# EAGLE library part WIZ820IO (library hybridpi)
Ethernet to SPI Communication Module WIZnet Datasheet: WIZ820io <http://www.wiznet.co.kr/include_Files/Just_Download.asp?PK_NUM=463&file_local_path=ReferenceFiles&file_local_name=WIZ820io_User_Manual_V1.0.pdf>
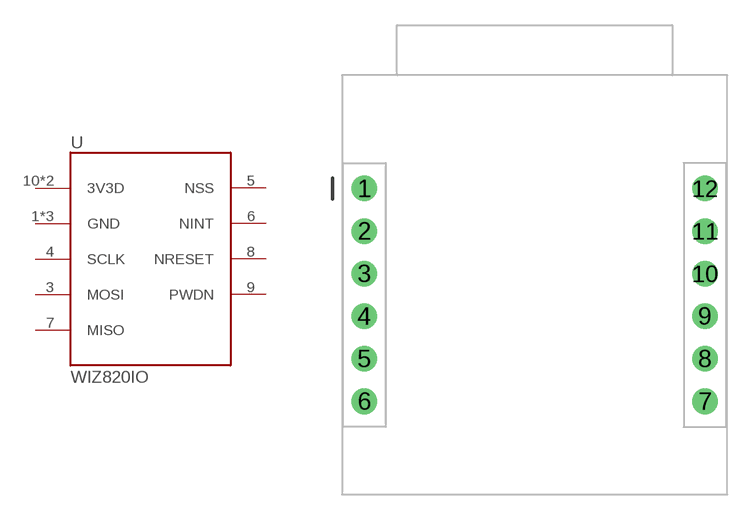
[diagram p3: symbol with the pads of WIZ820IO; footprint WIZ820IO]

Designator prefix U

## WIZ820IO (EAGLEUP: WIZ820IO)  [WIZ820IO]
1  GND
2  GND
3  MOSI
4  SCLK
5  NSS
6  NINT
7  MISO
8  NRESET
9  PWDN
10  3V3D
11  3V3D
12  GND

## Footprint WIZ820IO (pad centres in mm)
drill 1.016: 1 -10.16,6.35; 2 -10.16,3.81; 3 -10.16,1.27; 4 -10.16,-1.27; 5 -10.16,-3.81; 6 -10.16,-6.35; 7 10.16,-6.35; 8 10.16,-3.81; 9 10.16,-1.27; 10 10.16,1.27; 11 10.16,3.81; 12 10.16,6.35